# Altium footprint library Con IDC.PcbLib: 111 footprints (part 2 of 8)
Each footprint in its own frame and in the unit in brackets; x right, y up, seen from the top. Pads: shape width x height; smd on the part's side, far side on the other; paste and mask are expansions set on the pad; w line width, h text height; cw(c..) or ccw(c..) is an arc to the next point about the centre after c.
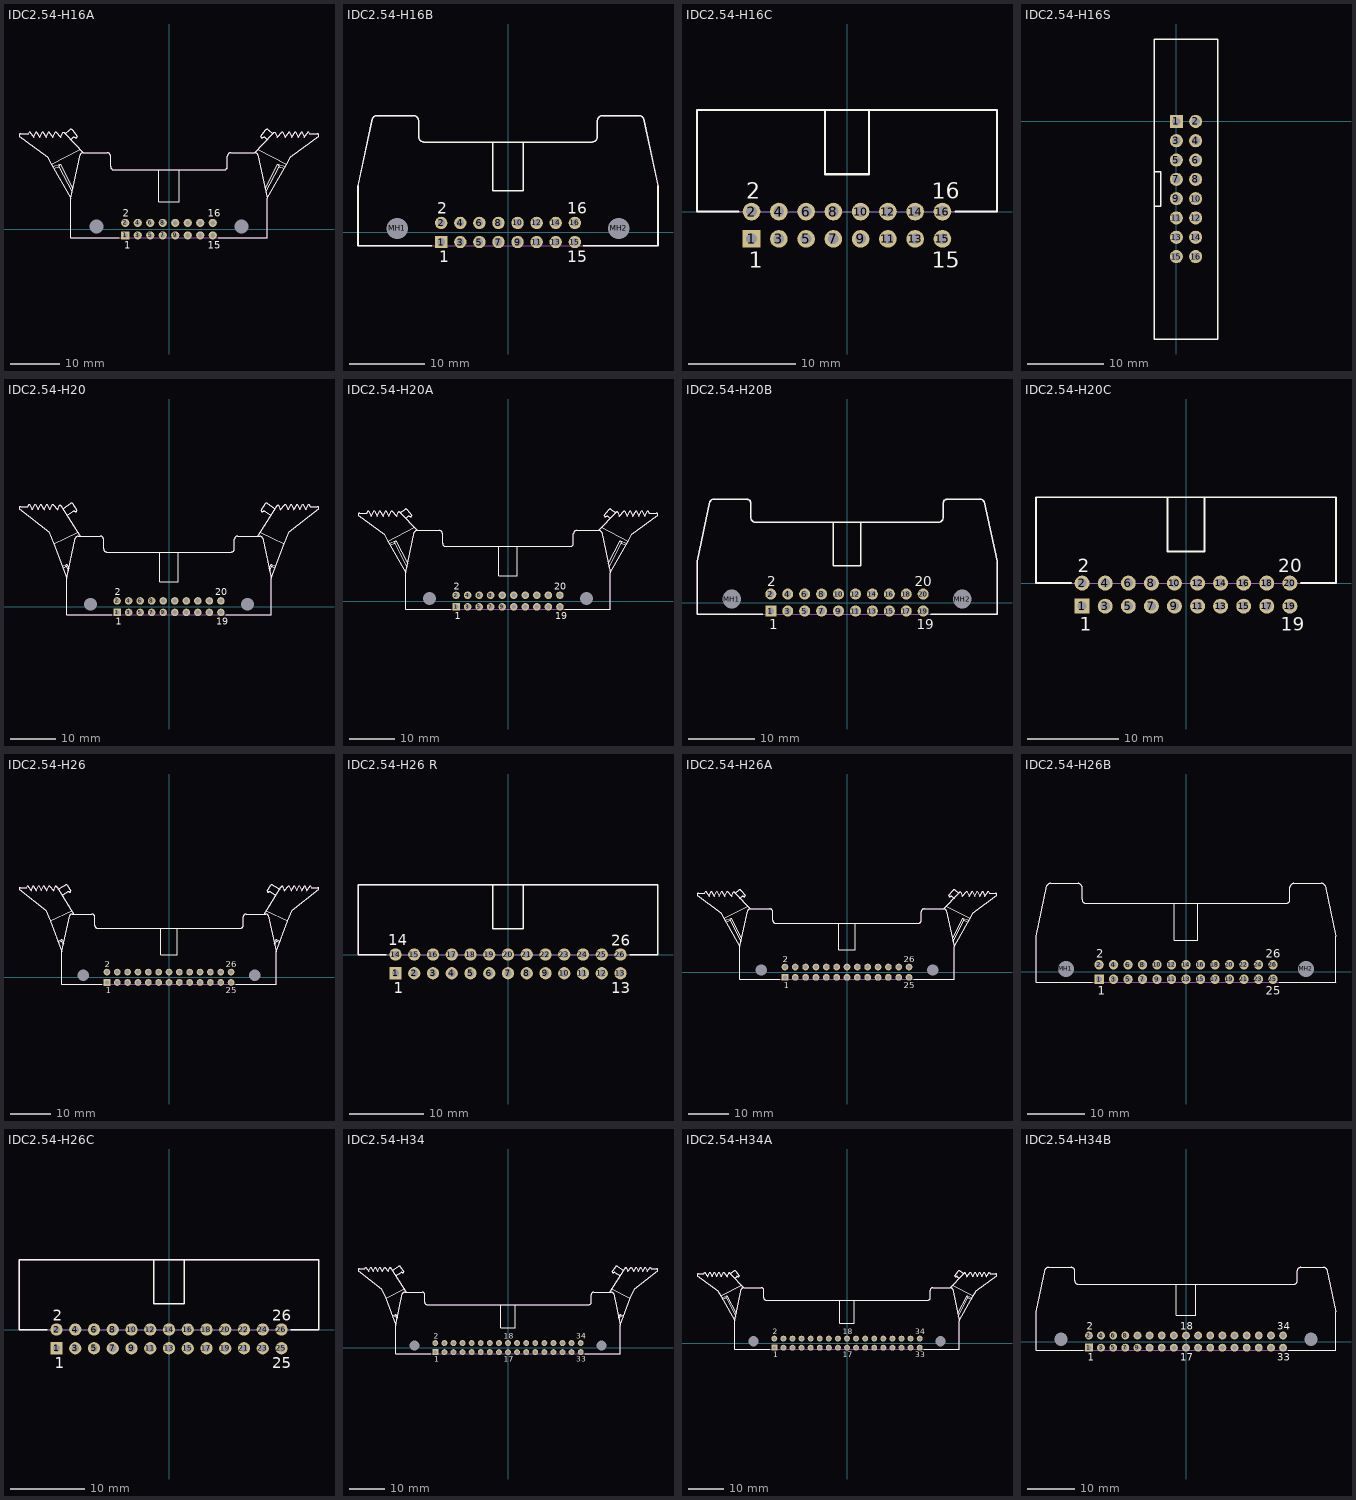
[diagram p1: the footprints below, top view; thin cyan lines are the x and y axes]

## IDC2.54-H16A [mm] "Connector; IDC, Thru-Hole; 16 Position; Right Angle; Pitch 2.54 mm; Body 39.90 x 8.5 x 23.30 mm (LxHxW), Locking levers"
height 8.5
pads (18):
  rect 1.65x1.65 hole 1: 1(-8.89,-1.27)
  round 1.65 hole 1: 2(-8.89,1.27) 3(-6.35,-1.27) 4(-6.35,1.27) 5(-3.81,-1.27) 6(-3.81,1.27) 7(-1.27,-1.27) 8(-1.27,1.27) 9(1.27,-1.27) 10(1.27,1.27) 11(3.81,-1.27) 12(3.81,1.27) 13(6.35,-1.27) 14(6.35,1.27) 15(8.89,-1.27) 16(8.89,1.27)
  round 2.5 hole 2.8 unplated: MH1(-14.73,0.53) MH2(14.73,0.53)
Top Overlay:
  lines w0.2: -23.619,12.722 -22.131,13.218 ; -23.391,12.377 -22.373,12.716 ; -19.988,18.198 -19.423,18.617 cw(c-19.287,18.227) -19.02,18.542 ccw(c-18.967,18.857) -18.648,18.877 -19.707,20.156 ccw(c-19.973,19.899) -20.122,20.238 -21.128,19.388 ; -19.703,7.442 -22.373,12.716 ; -19.556,8.195 -22.131,13.218 ; -18.07,16.204 -23.889,13.199 ; -17.46,15.53 -12.575,15.53 cw(c-12.575,14.83) -11.875,14.83 -11.875,12.73 ccw(c-11.175,12.73) -11.175,12.03 11.175,12.03 ccw(c11.175,12.73) 11.875,12.73 11.875,14.83 cw(c12.575,14.83) 12.575,15.53 17.46,15.53 ; -17.457,15.533 -21.128,19.388 ; -17.4,15.53 ccw(c-17.415,14.83) -18.06,15.102 -19.95,6.23 ; -10.115,-1.77 -19.95,-1.77 -19.95,6.23 ; -2.05,5.53 -2.05,12.03 ; -2.04,5.53 2.06,5.53 ; 2.05,5.534 2.05,12.03 ; 10,-1.77 19.95,-1.77 19.95,6.23 ; 17.4,15.53 cw(c17.415,14.83) 18.06,15.102 19.95,6.23 ; 17.457,15.533 21.128,19.388 ; 18.07,16.204 23.889,13.199 ; 19.556,8.195 22.131,13.218 ; 19.703,7.442 22.373,12.716 ; 19.988,18.198 19.423,18.617 ccw(c19.287,18.227) 19.02,18.542 cw(c18.967,18.857) 18.648,18.877 19.707,20.156 cw(c19.973,19.899) 20.122,20.238 21.128,19.388 ; 23.391,12.377 22.373,12.716 ; 23.619,12.722 22.131,13.218 ; -28.53,19.359 -30.141,19.359 ccw(c-30.141,19.02) -30.45,18.879 -24.695,14.654 -23.889,13.199 ; -28.53,19.359 -28.274,19.83 ; -28.53,19.359 -28.274,19.83 ; -28.274,19.83 -27.53,18.63 -26.93,19.83 -26.28,18.63 -25.66,19.83 -24.96,18.63 -24.41,19.83 -23.66,18.63 -23.03,19.83 -22,18.63 -21.593,19.594 cw(c-21.451,19.285) -21.128,19.388 ; -23.889,13.199 -19.95,6.23 ; -22.373,12.716 -22.131,13.218 ; 19.95,6.23 23.889,13.199 ; 21.128,19.388 cw(c21.451,19.285) 21.593,19.594 22,18.63 23.03,19.83 23.66,18.63 24.41,19.83 24.96,18.63 25.66,19.83 26.28,18.63 26.93,19.83 27.53,18.63 28.274,19.83 ; 22.131,13.218 22.373,12.716 ; 23.889,13.199 24.695,14.654 30.45,18.879 ccw(c30.141,19.02) 30.141,19.359 28.53,19.359 ; 28.274,19.83 28.53,19.359 ; 28.274,19.83 28.53,19.359
  text "15" at 7.89,-3.97 h1.5
  text "16" at 7.89,2.47 h1.5
  text "1" at -9.14,-3.97 h1.5
  text "2" at -9.39,2.47 h1.5
Mechanical 13:
  lines w0.1: -19.988,18.198 -19.423,18.617 cw(c-19.287,18.227) -19.02,18.542 ccw(c-18.967,18.857) -18.648,18.877 -19.707,20.156 ccw(c-19.973,19.899) -20.122,20.238 -21.128,19.388 ; -17.46,15.53 -12.575,15.53 cw(c-12.575,14.83) -11.875,14.83 -11.875,12.73 ccw(c-11.175,12.73) -11.175,12.03 11.175,12.03 ccw(c11.175,12.73) 11.875,12.73 11.875,14.83 cw(c12.575,14.83) 12.575,15.53 17.46,15.53 ; -17.457,15.533 -21.128,19.388 ; -17.4,15.53 ccw(c-17.415,14.83) -18.06,15.102 -19.95,6.23 ; 17.4,15.53 cw(c17.415,14.83) 18.06,15.102 19.95,6.23 ; 17.457,15.533 21.128,19.388 ; 19.988,18.198 19.423,18.617 ccw(c19.287,18.227) 19.02,18.542 cw(c18.967,18.857) 18.648,18.877 19.707,20.156 cw(c19.973,19.899) 20.122,20.238 21.128,19.388 ; -28.53,19.359 -30.141,19.359 ccw(c-30.141,19.02) -30.45,18.879 -24.695,14.654 -23.889,13.199 -19.95,6.23 ; -28.53,19.359 -28.274,19.83 ; -28.53,19.359 -28.274,19.83 ; -28.274,19.83 -27.53,18.63 -26.93,19.83 -26.28,18.63 -25.66,19.83 -24.96,18.63 -24.41,19.83 -23.66,18.63 -23.03,19.83 -22,18.63 -21.593,19.594 cw(c-21.451,19.285) -21.128,19.388 ; -19.95,6.23 -19.95,-1.77 19.95,-1.77 19.95,6.23 ; 19.95,6.23 23.889,13.199 24.695,14.654 30.45,18.879 ccw(c30.141,19.02) 30.141,19.359 28.53,19.359 ; 21.128,19.388 cw(c21.451,19.285) 21.593,19.594 22,18.63 23.03,19.83 23.66,18.63 24.41,19.83 24.96,18.63 25.66,19.83 26.28,18.63 26.93,19.83 27.53,18.63 28.274,19.83 ; 28.274,19.83 28.53,19.359 ; 28.274,19.83 28.53,19.359
3D body: height 8.5, standoff 0, extent -19.951,-1.771 19.951,15.533

## IDC2.54-H16B [mm] "Connector; IDC, Thru-Hole; 16 Position; Right Angle; Pitch 2.54 mm; Body 39.90 x 8.5 x 17.30 mm (LxHxW), Without locking levers"
height 8.5
pads (18):
  rect 1.65x1.65 hole 1: 1(-8.89,-1.27)
  round 1.65 hole 1: 2(-8.89,1.27) 3(-6.35,-1.27) 4(-6.35,1.27) 5(-3.81,-1.27) 6(-3.81,1.27) 7(-1.27,-1.27) 8(-1.27,1.27) 9(1.27,-1.27) 10(1.27,1.27) 11(3.81,-1.27) 12(3.81,1.27) 13(6.35,-1.27) 14(6.35,1.27) 15(8.89,-1.27) 16(8.89,1.27)
  round 2.5 hole 2.8 unplated: MH1(-14.73,0.53) MH2(14.73,0.53)
Top Overlay:
  lines w0.2: -10.115,-1.77 -19.95,-1.77 -19.95,6.23 -18.06,15.102 cw(c-17.415,14.83) -17.4,15.53 -12.575,15.53 cw(c-12.575,14.83) -11.875,14.83 -11.875,12.73 ccw(c-11.175,12.73) -11.175,12.03 11.175,12.03 ccw(c11.175,12.73) 11.875,12.73 11.875,14.83 cw(c12.575,14.83) 12.575,15.53 17.4,15.53 cw(c17.415,14.83) 18.06,15.102 19.95,6.23 19.95,-1.77 10,-1.77 ; -2.05,5.53 -2.05,12.03 ; -2.04,5.53 2.06,5.53 ; 2.05,5.534 2.05,12.03
  text "2" at -9.39,2.47 h1.5
  text "1" at -9.14,-3.97 h1.5
  text "16" at 7.89,2.47 h1.5
  text "15" at 7.89,-3.97 h1.5
Mechanical 13:
  lines w0.1: -19.95,-1.77 19.95,-1.77 19.95,6.23 18.06,15.102 ccw(c17.415,14.83) 17.4,15.53 12.575,15.53 ccw(c12.575,14.83) 11.875,14.83 11.875,12.73 cw(c11.175,12.73) 11.175,12.03 -11.175,12.03 cw(c-11.175,12.73) -11.875,12.73 -11.875,14.83 ccw(c-12.575,14.83) -12.575,15.53 -17.4,15.53 ccw(c-17.415,14.83) -18.06,15.102 -19.95,6.23 -19.95,-1.77
3D body: height 8.5, standoff 0, extent -19.951,-1.771 19.951,15.533

## IDC2.54-H16C [mm] "Connector; IDC, Low Profile Male Header, Thru-Hole; 16 Position; Right Angle; Pitch 2.54 mm; Body 27.94 x 8.9 x 9.2 mm (LxWxH)"
height 9.2
pads (16):
  rect 1.65x1.65 hole 1: 1(-8.89,-2.54)
  round 1.65 hole 1: 2(-8.89,0) 3(-6.35,-2.54) 4(-6.35,0) 5(-3.81,-2.54) 6(-3.81,0) 7(-1.27,-2.54) 8(-1.27,0) 9(1.27,-2.54) 10(1.27,0) 11(3.81,-2.54) 12(3.81,0) 13(6.35,-2.54) 14(6.35,0) 15(8.89,-2.54) 16(8.89,0)
Top Overlay:
  lines w0.2: -10.115,0 -13.97,0 -13.97,9.45 13.97,9.45 13.97,0 10.115,0 ; -2.05,9.45 -2.05,3.48 2.05,3.48 2.05,9.45
  text "15" at 7.89,-5.24 h1.5
  text "16" at 7.89,1.2 h1.5
  text "1" at -9.14,-5.24 h1.5
  text "2" at -9.39,1.2 h1.5
Mechanical 13:
  lines w0.1: -13.97,0 13.97,0 13.97,9.45 -13.97,9.45 -13.97,0
3D body "User Library-IDC Socket Male 16pin Angled THT Goldplated 2_54mm.step": height 8.98, standoff -2.37, extent -14.224,-3.048 14.336,10.512

## IDC2.54-H16S [mil]
pads (16):
  rect 68x68 hole 43: 1(0,0)
  round 68 hole 43: 2(100,0) 3(0,-100) 4(100,-100) 5(0,-200) 6(100,-200) 7(0,-300) 8(100,-300) 9(0,-400) 10(100,-400) 11(0,-500) 12(100,-500) 13(0,-600) 14(100,-600) 15(0,-700) 16(100,-700)
Top Overlay:
  lines w7: -115,-440 -80,-440 -80,-260 -115,-260 ; -115,-1127 -115,427 215,427 215,-1127 -115,-1127
3D body "IDC 16.STEP": height 1069.11, standoff -98, extent -115,-1127 215,427

## IDC2.54-H20 [mm] "Connector; IDC, Thru-Hole; 20 Position; Right Angle; Pitch 2.54 mm; Body 45.00 x 8.5 x 25.75 mm (LxHxW), Locking levers"
height 8.5
pads (22):
  rect 1.65x1.65 hole 1: 1(-11.43,-1.27)
  round 1.65 hole 1: 2(-11.43,1.27) 3(-8.89,-1.27) 4(-8.89,1.27) 5(-6.35,-1.27) 6(-6.35,1.27) 7(-3.81,-1.27) 8(-3.81,1.27) 9(-1.27,-1.27) 10(-1.27,1.27) 11(1.27,-1.27) 12(1.27,1.27) 13(3.81,-1.27) 14(3.81,1.27) 15(6.35,-1.27) 16(6.35,1.27) 17(8.89,-1.27) 18(8.89,1.27) 19(11.43,-1.27) 20(11.43,1.27)
  round 2.5 hole 2.8 unplated: MH1(-17.27,0.53) MH2(17.27,0.53)
Top Overlay:
  lines w0.2: -23.47,8.851 -22.505,9.3 ; -23.341,8.563 -22.67,8.877 ; -23.335,21.6 -21.612,22.725 cw(c-21.463,22.387) -21.197,22.644 -20.272,21.245 cw(c-20.592,21.225) -20.644,20.91 ccw(c-20.912,20.595) -21.047,20.985 ; -22.413,20.103 -21.05,20.991 ; -22.143,7.925 -22.67,8.877 ; -22.043,8.378 -22.505,9.3 ; -20.61,15.102 -22.5,6.23 ; -20.61,15.102 cw(c-19.965,14.83) -19.95,15.53 ; -20.115,16.383 -25.339,13.84 ; -19.94,15.53 -15.115,15.53 ; -19.544,15.53 -23.678,22.058 ccw(c-24.001,21.956) -24.143,22.265 -24.55,21.301 -25.58,22.501 -26.21,21.301 -26.96,22.501 -27.51,21.301 -28.21,22.501 -28.83,21.301 -29.48,22.501 -30.08,21.301 -30.825,22.501 ; -15.115,15.53 cw(c-15.115,14.83) -14.415,14.83 -14.415,12.73 ccw(c-13.715,12.73) -13.715,12.03 13.715,12.03 ccw(c13.715,12.73) 14.415,12.73 14.415,14.83 cw(c15.115,14.83) 15.115,15.53 19.94,15.53 ; -12.655,-1.77 -22.5,-1.77 -22.5,6.23 ; -2.05,5.53 -2.05,12.03 ; -2.04,5.53 2.06,5.53 ; 2.05,5.534 2.05,12.03 ; 12.54,-1.77 22.5,-1.77 22.5,6.23 ; 19.544,15.53 23.678,22.058 cw(c24.001,21.956) 24.143,22.265 24.55,21.301 25.58,22.501 26.21,21.301 26.96,22.501 27.51,21.301 28.21,22.501 28.83,21.301 29.48,22.501 30.08,21.301 30.825,22.501 ; 19.95,15.53 cw(c19.965,14.83) 20.61,15.102 22.5,6.23 ; 20.115,16.383 25.339,13.84 ; 21.047,20.985 ccw(c20.912,20.595) 20.644,20.91 cw(c20.592,21.225) 20.272,21.245 21.197,22.644 cw(c21.463,22.387) 21.612,22.725 23.335,21.6 ; 21.05,20.991 22.413,20.103 ; 22.043,8.378 22.505,9.3 ; 22.143,7.925 22.67,8.877 ; 23.341,8.563 22.67,8.877 ; 23.47,8.851 22.505,9.3 ; -31.08,22.03 -32.691,22.03 ccw(c-32.691,21.69) -33,21.549 -26.465,16.455 -25.339,13.84 ; -31.08,22.03 -30.825,22.501 ; -31.08,22.03 -30.825,22.501 ; -25.339,13.84 -22.5,6.23 ; -22.67,8.877 -22.505,9.3 ; 22.5,6.23 25.339,13.84 ; 22.505,9.3 22.67,8.877 ; 25.339,13.84 26.465,16.455 33,21.549 ccw(c32.691,21.69) 32.691,22.03 31.08,22.03 ; 30.825,22.501 31.08,22.03 ; 30.825,22.501 31.08,22.03
  text "2" at -11.93,2.47 h1.5
  text "1" at -11.68,-3.97 h1.5
  text "20" at 10.18,2.47 h1.5
  text "19" at 10.43,-3.97 h1.5
Mechanical 13:
  lines w0.1: -23.335,21.6 -21.612,22.725 cw(c-21.463,22.387) -21.197,22.644 -20.272,21.245 cw(c-20.592,21.225) -20.644,20.91 ccw(c-20.912,20.595) -21.047,20.985 ; -22.413,20.103 -21.05,20.991 ; -20.61,15.102 -22.5,6.23 ; -20.61,15.102 cw(c-19.965,14.83) -19.95,15.53 ; -19.94,15.53 -15.115,15.53 ; -19.544,15.53 -23.678,22.058 ccw(c-24.001,21.956) -24.143,22.265 -24.55,21.301 -25.58,22.501 -26.21,21.301 -26.96,22.501 -27.51,21.301 -28.21,22.501 -28.83,21.301 -29.48,22.501 -30.08,21.301 -30.825,22.501 ; -15.115,15.53 cw(c-15.115,14.83) -14.415,14.83 -14.415,12.73 ccw(c-13.715,12.73) -13.715,12.03 13.715,12.03 ccw(c13.715,12.73) 14.415,12.73 14.415,14.83 cw(c15.115,14.83) 15.115,15.53 19.94,15.53 ; 19.544,15.53 23.678,22.058 cw(c24.001,21.956) 24.143,22.265 24.55,21.301 25.58,22.501 26.21,21.301 26.96,22.501 27.51,21.301 28.21,22.501 28.83,21.301 29.48,22.501 30.08,21.301 30.825,22.501 ; 19.95,15.53 cw(c19.965,14.83) 20.61,15.102 22.5,6.23 ; 21.047,20.985 ccw(c20.912,20.595) 20.644,20.91 cw(c20.592,21.225) 20.272,21.245 21.197,22.644 cw(c21.463,22.387) 21.612,22.725 23.335,21.6 ; 21.05,20.991 22.413,20.103 ; -31.08,22.03 -30.825,22.501 ; -31.08,22.03 -32.691,22.03 ccw(c-32.691,21.69) -33,21.549 -26.465,16.455 -25.339,13.84 -22.5,6.23 ; -31.08,22.03 -30.825,22.501 ; -22.5,6.23 -22.5,-1.77 22.5,-1.77 22.5,6.23 ; 22.5,6.23 25.339,13.84 26.465,16.455 33,21.549 ccw(c32.691,21.69) 32.691,22.03 31.08,22.03 ; 30.825,22.501 31.08,22.03 ; 30.825,22.501 31.08,22.03
3D body: height 8.5, standoff 0, extent -22.501,-1.771 22.501,15.533

## IDC2.54-H20A [mm] "Connector; IDC, Thru-Hole; 20 Position; Right Angle; Pitch 2.54 mm; Body 45.00 x 8.5 x 23.30 mm (LxHxW), Locking levers"
height 8.5
pads (22):
  rect 1.65x1.65 hole 1: 1(-11.43,-1.27)
  round 1.65 hole 1: 2(-11.43,1.27) 3(-8.89,-1.27) 4(-8.89,1.27) 5(-6.35,-1.27) 6(-6.35,1.27) 7(-3.81,-1.27) 8(-3.81,1.27) 9(-1.27,-1.27) 10(-1.27,1.27) 11(1.27,-1.27) 12(1.27,1.27) 13(3.81,-1.27) 14(3.81,1.27) 15(6.35,-1.27) 16(6.35,1.27) 17(8.89,-1.27) 18(8.89,1.27) 19(11.43,-1.27) 20(11.43,1.27)
  round 2.5 hole 2.8 unplated: MH1(-17.27,0.53) MH2(17.27,0.53)
Top Overlay:
  lines w0.2: -26.169,12.722 -24.681,13.218 ; -25.941,12.377 -24.923,12.716 ; -22.538,18.198 -21.973,18.617 cw(c-21.837,18.227) -21.57,18.542 ccw(c-21.517,18.857) -21.198,18.877 -22.257,20.156 ccw(c-22.523,19.899) -22.672,20.238 -23.678,19.388 ; -22.253,7.442 -24.923,12.716 ; -22.106,8.195 -24.681,13.218 ; -20.62,16.204 -26.439,13.199 ; -20.007,15.533 -23.678,19.388 ; -20,15.53 -15.115,15.53 cw(c-15.115,14.83) -14.415,14.83 -14.415,12.73 ccw(c-13.715,12.73) -13.715,12.03 13.715,12.03 ccw(c13.715,12.73) 14.415,12.73 14.415,14.83 cw(c15.115,14.83) 15.115,15.53 20,15.53 ; -19.95,15.53 ccw(c-19.965,14.83) -20.61,15.102 -22.5,6.23 ; -12.655,-1.77 -22.5,-1.77 -22.5,6.23 ; -2.05,5.53 -2.05,12.03 ; -2.04,5.53 2.06,5.53 ; 2.05,5.534 2.05,12.03 ; 12.54,-1.77 22.5,-1.77 22.5,6.23 ; 19.95,15.53 cw(c19.965,14.83) 20.61,15.102 22.5,6.23 ; 20.007,15.533 23.678,19.388 ; 20.62,16.204 26.439,13.199 ; 22.106,8.195 24.681,13.218 ; 22.253,7.442 24.923,12.716 ; 22.538,18.198 21.973,18.617 ccw(c21.837,18.227) 21.57,18.542 cw(c21.517,18.857) 21.198,18.877 22.257,20.156 cw(c22.523,19.899) 22.672,20.238 23.678,19.388 ; 25.941,12.377 24.923,12.716 ; 26.169,12.722 24.681,13.218 ; -31.08,19.359 -30.824,19.83 ; -31.08,19.359 -30.824,19.83 ; -31.08,19.359 -32.691,19.359 ccw(c-32.691,19.02) -33,18.879 -27.245,14.654 -26.439,13.199 ; -30.824,19.83 -30.08,18.63 -29.48,19.83 -28.83,18.63 -28.21,19.83 -27.51,18.63 -26.96,19.83 -26.21,18.63 -25.58,19.83 -24.55,18.63 -24.143,19.594 cw(c-24.001,19.285) -23.678,19.388 ; -26.439,13.199 -22.5,6.23 ; -24.923,12.716 -24.681,13.218 ; 22.5,6.23 26.439,13.199 ; 23.678,19.388 cw(c24.001,19.285) 24.143,19.594 24.55,18.63 25.58,19.83 26.21,18.63 26.96,19.83 27.51,18.63 28.21,19.83 28.83,18.63 29.48,19.83 30.08,18.63 30.824,19.83 ; 24.681,13.218 24.923,12.716 ; 26.439,13.199 27.245,14.654 33,18.879 ccw(c32.691,19.02) 32.691,19.359 31.08,19.359 ; 30.824,19.83 31.08,19.359 ; 30.824,19.83 31.08,19.359
  text "2" at -11.93,2.47 h1.5
  text "1" at -11.68,-3.97 h1.5
  text "20" at 10.18,2.47 h1.5
  text "19" at 10.43,-3.97 h1.5
Mechanical 13:
  lines w0.1: -22.538,18.198 -21.973,18.617 cw(c-21.837,18.227) -21.57,18.542 ccw(c-21.517,18.857) -21.198,18.877 -22.257,20.156 ccw(c-22.523,19.899) -22.672,20.238 -23.678,19.388 ; -20.007,15.533 -23.678,19.388 ; -20,15.53 -15.115,15.53 cw(c-15.115,14.83) -14.415,14.83 -14.415,12.73 ccw(c-13.715,12.73) -13.715,12.03 13.715,12.03 ccw(c13.715,12.73) 14.415,12.73 14.415,14.83 cw(c15.115,14.83) 15.115,15.53 20,15.53 ; -19.95,15.53 ccw(c-19.965,14.83) -20.61,15.102 -22.5,6.23 ; 19.95,15.53 cw(c19.965,14.83) 20.61,15.102 22.5,6.23 ; 20.007,15.533 23.678,19.388 ; 22.538,18.198 21.973,18.617 ccw(c21.837,18.227) 21.57,18.542 cw(c21.517,18.857) 21.198,18.877 22.257,20.156 cw(c22.523,19.899) 22.672,20.238 23.678,19.388 ; -31.08,19.359 -30.824,19.83 ; -31.08,19.359 -32.691,19.359 ccw(c-32.691,19.02) -33,18.879 -27.245,14.654 -26.439,13.199 -22.5,6.23 ; -31.08,19.359 -30.824,19.83 ; -30.824,19.83 -30.08,18.63 -29.48,19.83 -28.83,18.63 -28.21,19.83 -27.51,18.63 -26.96,19.83 -26.21,18.63 -25.58,19.83 -24.55,18.63 -24.143,19.594 cw(c-24.001,19.285) -23.678,19.388 ; -22.5,6.23 -22.5,-1.77 22.5,-1.77 22.5,6.23 ; 22.5,6.23 26.439,13.199 27.245,14.654 33,18.879 ccw(c32.691,19.02) 32.691,19.359 31.08,19.359 ; 23.678,19.388 cw(c24.001,19.285) 24.143,19.594 24.55,18.63 25.58,19.83 26.21,18.63 26.96,19.83 27.51,18.63 28.21,19.83 28.83,18.63 29.48,19.83 30.08,18.63 30.824,19.83 ; 30.824,19.83 31.08,19.359 ; 30.824,19.83 31.08,19.359
3D body: height 8.5, standoff 0, extent -22.501,-1.771 22.501,15.533

## IDC2.54-H20B [mm] "Connector; IDC, Thru-Hole; 20 Position; Right Angle; Pitch 2.54 mm; Body 45.00 x 8.5 x 17.30 mm (LxHxW), Without locking levers"
height 8.5
pads (22):
  rect 1.65x1.65 hole 1: 1(-11.43,-1.27)
  round 1.65 hole 1: 2(-11.43,1.27) 3(-8.89,-1.27) 4(-8.89,1.27) 5(-6.35,-1.27) 6(-6.35,1.27) 7(-3.81,-1.27) 8(-3.81,1.27) 9(-1.27,-1.27) 10(-1.27,1.27) 11(1.27,-1.27) 12(1.27,1.27) 13(3.81,-1.27) 14(3.81,1.27) 15(6.35,-1.27) 16(6.35,1.27) 17(8.89,-1.27) 18(8.89,1.27) 19(11.43,-1.27) 20(11.43,1.27)
  round 2.5 hole 2.8 unplated: MH1(-17.27,0.53) MH2(17.27,0.53)
Top Overlay:
  lines w0.2: -12.655,-1.77 -22.5,-1.77 -22.5,6.23 -20.6,15.102 cw(c-19.955,14.83) -19.94,15.53 -15.115,15.53 cw(c-15.115,14.83) -14.415,14.83 -14.415,12.73 ccw(c-13.715,12.73) -13.715,12.03 13.715,12.03 ccw(c13.715,12.73) 14.415,12.73 14.415,14.83 cw(c15.115,14.83) 15.115,15.53 19.94,15.53 cw(c19.955,14.83) 20.6,15.102 22.5,6.23 22.5,-1.77 12.54,-1.77 ; -2.05,5.53 -2.05,12.03 ; -2.04,5.53 2.06,5.53 ; 2.05,5.534 2.05,12.03
  text "19" at 10.43,-3.97 h1.5
  text "20" at 10.18,2.47 h1.5
  text "1" at -11.68,-3.97 h1.5
  text "2" at -11.93,2.47 h1.5
Mechanical 13:
  lines w0.1: -22.5,-1.77 22.5,-1.77 22.5,6.23 20.6,15.102 ccw(c19.955,14.83) 19.94,15.53 15.115,15.53 ccw(c15.115,14.83) 14.415,14.83 14.415,12.73 cw(c13.715,12.73) 13.715,12.03 -13.715,12.03 cw(c-13.715,12.73) -14.415,12.73 -14.415,14.83 ccw(c-15.115,14.83) -15.115,15.53 -19.94,15.53 ccw(c-19.955,14.83) -20.6,15.102 -22.5,6.23 -22.5,-1.77
3D body: height 8.5, standoff 0, extent -22.501,-1.771 22.501,15.533

## IDC2.54-H20C [mm] "Connector; IDC, Low Profile Male Header, Thru-Hole; 20 Position; Right Angle; Pitch 2.54 mm; Body 33.02 x 8.9 x 9.2 mm (LxWxH)"
height 9.2
pads (20):
  rect 1.65x1.65 hole 1: 1(-11.43,-2.54)
  round 1.65 hole 1: 2(-11.43,0) 3(-8.89,-2.54) 4(-8.89,0) 5(-6.35,-2.54) 6(-6.35,0) 7(-3.81,-2.54) 8(-3.81,0) 9(-1.27,-2.54) 10(-1.27,0) 11(1.27,-2.54) 12(1.27,0) 13(3.81,-2.54) 14(3.81,0) 15(6.35,-2.54) 16(6.35,0) 17(8.89,-2.54) 18(8.89,0) 19(11.43,-2.54) 20(11.43,0)
Top Overlay:
  lines w0.2: -12.655,0 -16.51,0 -16.51,9.45 16.51,9.45 16.51,0 12.655,0 ; -2.05,9.45 -2.05,3.48 2.05,3.48 2.05,9.45
  text "19" at 10.43,-5.24 h1.5
  text "20" at 10.18,1.2 h1.5
  text "1" at -11.68,-5.24 h1.5
  text "2" at -11.93,1.2 h1.5
Mechanical 13:
  lines w0.1: -16.51,0 16.51,0 16.51,9.45 -16.51,9.45 -16.51,0
3D body: height 9.2, standoff 0, extent -16.51,0 16.51,9.45

## IDC2.54-H26 [mm] "Connector; IDC, Thru-Hole; 26 Position; Right Angle; Pitch 2.54 mm; Body 52.60 x 8.5 x 25.75 mm (LxHxW), Locking levers"
height 8.5
pads (28):
  rect 1.65x1.65 hole 1: 1(-15.24,-1.27)
  round 1.65 hole 1: 2(-15.24,1.27) 3(-12.7,-1.27) 4(-12.7,1.27) 5(-10.16,-1.27) 6(-10.16,1.27) 7(-7.62,-1.27) 8(-7.62,1.27) 9(-5.08,-1.27) 10(-5.08,1.27) 11(-2.54,-1.27) 12(-2.54,1.27) 13(0,-1.27) 14(0,1.27) 15(2.54,-1.27) 16(2.54,1.27) 17(5.08,-1.27) 18(5.08,1.27) 19(7.62,-1.27) 20(7.62,1.27) 21(10.16,-1.27) 22(10.16,1.27) 23(12.7,-1.27) 24(12.7,1.27) 25(15.24,-1.27) 26(15.24,1.27)
  round 2.5 hole 2.8 unplated: MH1(-21.08,0.53) MH2(21.08,0.53)
Top Overlay:
  lines w0.2: -27.27,8.851 -26.305,9.3 ; -27.141,8.563 -26.47,8.877 ; -27.135,21.6 -25.412,22.725 cw(c-25.263,22.387) -24.997,22.644 -24.072,21.245 cw(c-24.392,21.225) -24.444,20.91 ccw(c-24.712,20.595) -24.847,20.985 ; -26.213,20.103 -24.85,20.991 ; -25.943,7.925 -26.47,8.877 ; -25.843,8.378 -26.305,9.3 ; -23.915,16.383 -29.139,13.84 ; -23.344,15.53 -27.478,22.058 ccw(c-27.801,21.956) -27.943,22.265 -28.35,21.301 -29.38,22.501 -30.01,21.301 -30.76,22.501 -31.31,21.301 -32.01,22.501 -32.63,21.301 -33.28,22.501 -33.88,21.301 -34.625,22.501 ; -18.925,15.53 cw(c-18.925,14.83) -18.225,14.83 -18.225,12.73 ccw(c-17.525,12.73) -17.525,12.03 17.525,12.03 ccw(c17.525,12.73) 18.225,12.73 18.225,14.83 cw(c18.925,14.83) 18.925,15.53 23.75,15.53 cw(c23.765,14.83) 24.41,15.102 26.3,6.23 ; -18.925,15.53 -23.75,15.53 ccw(c-23.765,14.83) -24.41,15.102 -26.3,6.23 ; -16.465,-1.77 -26.3,-1.77 -26.3,6.23 ; -2.05,5.53 -2.05,12.03 ; -2.04,5.53 2.06,5.53 ; 2.05,5.534 2.05,12.03 ; 16.35,-1.77 26.3,-1.77 26.3,6.23 ; 23.344,15.53 27.478,22.058 cw(c27.801,21.956) 27.943,22.265 28.35,21.301 29.38,22.501 30.01,21.301 30.76,22.501 31.31,21.301 32.01,22.501 32.63,21.301 33.28,22.501 33.88,21.301 34.624,22.501 ; 23.915,16.383 29.139,13.84 ; 24.847,20.985 ccw(c24.712,20.595) 24.444,20.91 cw(c24.392,21.225) 24.072,21.245 24.997,22.644 cw(c25.263,22.387) 25.412,22.725 27.135,21.6 ; 24.85,20.991 26.213,20.103 ; 25.843,8.378 26.305,9.3 ; 25.943,7.925 26.47,8.877 ; 27.141,8.563 26.47,8.877 ; 27.27,8.851 26.305,9.3 ; -34.88,22.03 -36.491,22.03 ccw(c-36.491,21.69) -36.8,21.549 -30.265,16.455 -29.139,13.84 ; -34.88,22.03 -34.625,22.501 ; -34.88,22.03 -34.625,22.501 ; -29.139,13.84 -26.3,6.23 ; -26.47,8.877 -26.305,9.3 ; 26.3,6.23 29.139,13.84 ; 26.305,9.3 26.47,8.877 ; 29.139,13.84 30.265,16.455 36.8,21.549 ccw(c36.491,21.69) 36.491,22.03 34.88,22.03 ; 34.624,22.501 34.88,22.03 ; 34.624,22.501 34.88,22.03
  text "2" at -15.74,2.47 h1.5
  text "1" at -15.49,-3.97 h1.5
  text "26" at 13.99,2.47 h1.5
  text "25" at 13.99,-3.97 h1.5
Mechanical 13:
  lines w0.1: -27.135,21.6 -25.412,22.725 cw(c-25.263,22.387) -24.997,22.644 -24.072,21.245 cw(c-24.392,21.225) -24.444,20.91 ccw(c-24.712,20.595) -24.847,20.985 ; -26.213,20.103 -24.85,20.991 ; -23.344,15.53 -27.478,22.058 ccw(c-27.801,21.956) -27.943,22.265 -28.35,21.301 -29.38,22.501 -30.01,21.301 -30.76,22.501 -31.31,21.301 -32.01,22.501 -32.63,21.301 -33.28,22.501 -33.88,21.301 -34.625,22.501 ; -18.925,15.53 cw(c-18.925,14.83) -18.225,14.83 -18.225,12.73 ccw(c-17.525,12.73) -17.525,12.03 17.525,12.03 ccw(c17.525,12.73) 18.225,12.73 18.225,14.83 cw(c18.925,14.83) 18.925,15.53 23.75,15.53 cw(c23.765,14.83) 24.41,15.102 26.3,6.23 ; -18.925,15.53 -23.75,15.53 ccw(c-23.765,14.83) -24.41,15.102 -26.3,6.23 ; 23.344,15.53 27.478,22.058 cw(c27.801,21.956) 27.943,22.265 28.35,21.301 29.38,22.501 30.01,21.301 30.76,22.501 31.31,21.301 32.01,22.501 32.63,21.301 33.28,22.501 33.88,21.301 34.624,22.501 ; 24.847,20.985 ccw(c24.712,20.595) 24.444,20.91 cw(c24.392,21.225) 24.072,21.245 24.997,22.644 cw(c25.263,22.387) 25.412,22.725 27.135,21.6 ; 24.85,20.991 26.213,20.103 ; -34.88,22.03 -34.625,22.501 ; -34.88,22.03 -36.491,22.03 ccw(c-36.491,21.69) -36.8,21.549 -30.265,16.455 -29.139,13.84 -26.3,6.23 ; -34.88,22.03 -34.625,22.501 ; -26.3,6.23 -26.3,-1.77 26.3,-1.77 26.3,6.23 ; 26.3,6.23 29.139,13.84 30.265,16.455 36.8,21.549 ccw(c36.491,21.69) 36.491,22.03 34.88,22.03 ; 34.624,22.501 34.88,22.03 ; 34.624,22.501 34.88,22.03
3D body: height 8.5, standoff 0, extent -26.301,-1.771 26.301,15.533

## IDC2.54-H26 R [mm] "IDC Socket Male 26pin Angled THT Goldplated 2.54mm"
height 9.2
pads (26):
  rect 1.65x1.65 hole 1: 1(-15.24,-2.54)
  round 1.65 hole 1: 2(-12.7,-2.54) 3(-10.16,-2.54) 4(-7.62,-2.54) 5(-5.08,-2.54) 6(-2.54,-2.54) 7(0,-2.54) 8(2.54,-2.54) 9(5.08,-2.54) 10(7.62,-2.54) 11(10.16,-2.54) 12(12.7,-2.54) 13(15.24,-2.54) 14(-15.24,0) 15(-12.7,0) 16(-10.16,0) 17(-7.62,0) 18(-5.08,0) 19(-2.54,0) 20(0,0) 21(2.54,0) 22(5.08,0) 23(7.62,0) 24(10.16,0) 25(12.7,0) 26(15.24,0)
Top Overlay:
  lines w0.2: -16.465,0 -20.32,0 -20.32,9.45 20.32,9.45 20.32,0 16.465,0 ; -2.05,9.45 -2.05,3.48 2.05,3.48 2.05,9.45
  text "13" at 13.99,-5.24 h1.5
  text "26" at 13.99,1.2 h1.5
  text "1" at -15.49,-5.24 h1.5
  text "14" at -16.256,1.27 h1.5
Mechanical 13:
  lines w0.1: -20.32,0 20.32,0 20.32,9.45 -20.32,9.45 -20.32,0
3D body "User Library-IDC Socket Male 26pin Angled THT Goldplated 2_54mm.step": height 8.98, standoff -2.37, extent -20.62,-2.864 20.64,10.696

## IDC2.54-H26A [mm] "Connector; IDC, Thru-Hole; 26 Position; Right Angle; Pitch 2.54 mm; Body 52.60 x 8.5 x 23.30 mm (LxHxW), Locking levers"
height 8.5
pads (28):
  rect 1.65x1.65 hole 1: 1(-15.24,-1.27)
  round 1.65 hole 1: 2(-15.24,1.27) 3(-12.7,-1.27) 4(-12.7,1.27) 5(-10.16,-1.27) 6(-10.16,1.27) 7(-7.62,-1.27) 8(-7.62,1.27) 9(-5.08,-1.27) 10(-5.08,1.27) 11(-2.54,-1.27) 12(-2.54,1.27) 13(0,-1.27) 14(0,1.27) 15(2.54,-1.27) 16(2.54,1.27) 17(5.08,-1.27) 18(5.08,1.27) 19(7.62,-1.27) 20(7.62,1.27) 21(10.16,-1.27) 22(10.16,1.27) 23(12.7,-1.27) 24(12.7,1.27) 25(15.24,-1.27) 26(15.24,1.27)
  round 2.5 hole 2.8 unplated: MH1(-21.08,0.53) MH2(21.08,0.53)
Top Overlay:
  lines w0.2: -29.969,12.722 -28.481,13.218 ; -29.741,12.377 -28.723,12.716 ; -26.338,18.198 -25.773,18.617 cw(c-25.637,18.227) -25.37,18.542 ccw(c-25.317,18.857) -24.998,18.877 -26.057,20.156 ccw(c-26.323,19.899) -26.472,20.238 -27.478,19.388 ; -26.053,7.442 -28.723,12.716 ; -25.906,8.195 -28.481,13.218 ; -24.42,16.204 -30.239,13.199 ; -23.807,15.533 -27.478,19.388 ; -18.925,15.53 cw(c-18.925,14.83) -18.225,14.83 -18.225,12.73 ccw(c-17.525,12.73) -17.525,12.03 17.525,12.03 ccw(c17.525,12.73) 18.225,12.73 18.225,14.83 cw(c18.925,14.83) 18.925,15.53 23.75,15.53 cw(c23.765,14.83) 24.41,15.102 26.3,6.23 ; -18.925,15.53 -23.75,15.53 ccw(c-23.765,14.83) -24.41,15.102 -26.3,6.23 ; -16.465,-1.77 -26.3,-1.77 -26.3,6.23 ; -2.05,5.53 -2.05,12.03 ; -2.04,5.53 2.06,5.53 ; 2.05,5.534 2.05,12.03 ; 16.35,-1.77 26.3,-1.77 26.3,6.23 ; 23.807,15.533 27.478,19.388 ; 24.42,16.204 30.239,13.199 ; 25.906,8.195 28.481,13.218 ; 26.053,7.442 28.723,12.716 ; 26.338,18.198 25.773,18.617 ccw(c25.637,18.227) 25.37,18.542 cw(c25.317,18.857) 24.998,18.877 26.057,20.156 cw(c26.323,19.899) 26.472,20.238 27.478,19.388 ; 29.741,12.377 28.723,12.716 ; 29.969,12.722 28.481,13.218 ; -34.88,19.359 -36.491,19.359 ccw(c-36.491,19.02) -36.8,18.879 -31.045,14.654 -30.239,13.199 ; -34.88,19.359 -34.624,19.83 ; -34.88,19.359 -34.624,19.83 ; -34.624,19.83 -33.88,18.63 -33.28,19.83 -32.63,18.63 -32.01,19.83 -31.31,18.63 -30.76,19.83 -30.01,18.63 -29.38,19.83 -28.35,18.63 -27.943,19.594 cw(c-27.801,19.285) -27.478,19.388 ; -30.239,13.199 -26.3,6.23 ; -28.723,12.716 -28.481,13.218 ; 26.3,6.23 30.239,13.199 ; 27.478,19.388 cw(c27.801,19.285) 27.943,19.594 28.35,18.63 29.38,19.83 30.01,18.63 30.76,19.83 31.31,18.63 32.01,19.83 32.63,18.63 33.28,19.83 33.88,18.63 34.624,19.83 ; 28.481,13.218 28.723,12.716 ; 30.239,13.199 31.045,14.654 36.8,18.879 ccw(c36.491,19.02) 36.491,19.359 34.88,19.359 ; 34.624,19.83 34.88,19.359 ; 34.624,19.83 34.88,19.359
  text "25" at 13.99,-3.97 h1.5
  text "26" at 13.99,2.47 h1.5
  text "1" at -15.49,-3.97 h1.5
  text "2" at -15.74,2.47 h1.5
Mechanical 13:
  lines w0.1: -26.338,18.198 -25.773,18.617 cw(c-25.637,18.227) -25.37,18.542 ccw(c-25.317,18.857) -24.998,18.877 -26.057,20.156 ccw(c-26.323,19.899) -26.472,20.238 -27.478,19.388 ; -23.807,15.533 -27.478,19.388 ; -18.925,15.53 cw(c-18.925,14.83) -18.225,14.83 -18.225,12.73 ccw(c-17.525,12.73) -17.525,12.03 17.525,12.03 ccw(c17.525,12.73) 18.225,12.73 18.225,14.83 cw(c18.925,14.83) 18.925,15.53 23.75,15.53 cw(c23.765,14.83) 24.41,15.102 26.3,6.23 ; -18.925,15.53 -23.75,15.53 ccw(c-23.765,14.83) -24.41,15.102 -26.3,6.23 ; 23.807,15.533 27.478,19.388 ; 26.338,18.198 25.773,18.617 ccw(c25.637,18.227) 25.37,18.542 cw(c25.317,18.857) 24.998,18.877 26.057,20.156 cw(c26.323,19.899) 26.472,20.238 27.478,19.388 ; -34.88,19.359 -34.624,19.83 ; -34.88,19.359 -36.491,19.359 ccw(c-36.491,19.02) -36.8,18.879 -31.045,14.654 -30.239,13.199 -26.3,6.23 ; -34.88,19.359 -34.624,19.83 ; -34.624,19.83 -33.88,18.63 -33.28,19.83 -32.63,18.63 -32.01,19.83 -31.31,18.63 -30.76,19.83 -30.01,18.63 -29.38,19.83 -28.35,18.63 -27.943,19.594 cw(c-27.801,19.285) -27.478,19.388 ; -26.3,6.23 -26.3,-1.77 26.3,-1.77 26.3,6.23 ; 26.3,6.23 30.239,13.199 31.045,14.654 36.8,18.879 ccw(c36.491,19.02) 36.491,19.359 34.88,19.359 ; 27.478,19.388 cw(c27.801,19.285) 27.943,19.594 28.35,18.63 29.38,19.83 30.01,18.63 30.76,19.83 31.31,18.63 32.01,19.83 32.63,18.63 33.28,19.83 33.88,18.63 34.624,19.83 ; 34.624,19.83 34.88,19.359 ; 34.624,19.83 34.88,19.359
3D body: height 8.5, standoff 0, extent -26.301,-1.771 26.301,15.533

## IDC2.54-H26B [mm] "Connector; IDC, Thru-Hole; 26 Position; Right Angle; Pitch 2.54 mm; Body 52.60 x 8.5 x 17.30 mm (LxHxW), Without locking levers"
height 8.5
pads (28):
  rect 1.65x1.65 hole 1: 1(-15.24,-1.27)
  round 1.65 hole 1: 2(-15.24,1.27) 3(-12.7,-1.27) 4(-12.7,1.27) 5(-10.16,-1.27) 6(-10.16,1.27) 7(-7.62,-1.27) 8(-7.62,1.27) 9(-5.08,-1.27) 10(-5.08,1.27) 11(-2.54,-1.27) 12(-2.54,1.27) 13(0,-1.27) 14(0,1.27) 15(2.54,-1.27) 16(2.54,1.27) 17(5.08,-1.27) 18(5.08,1.27) 19(7.62,-1.27) 20(7.62,1.27) 21(10.16,-1.27) 22(10.16,1.27) 23(12.7,-1.27) 24(12.7,1.27) 25(15.24,-1.27) 26(15.24,1.27)
  round 2.5 hole 2.8 unplated: MH1(-21.08,0.53) MH2(21.08,0.53)
Top Overlay:
  lines w0.2: -18.925,15.53 cw(c-18.925,14.83) -18.225,14.83 -18.225,12.73 ccw(c-17.525,12.73) -17.525,12.03 17.525,12.03 ccw(c17.525,12.73) 18.225,12.73 18.225,14.83 cw(c18.925,14.83) 18.925,15.53 23.75,15.53 cw(c23.765,14.83) 24.41,15.102 26.3,6.23 26.3,-1.77 16.35,-1.77 ; -18.925,15.53 -23.75,15.53 ccw(c-23.765,14.83) -24.41,15.102 -26.3,6.23 -26.3,-1.77 -16.465,-1.77 ; -2.05,5.53 -2.05,12.03 ; -2.04,5.53 2.06,5.53 ; 2.05,5.534 2.05,12.03
  text "2" at -15.74,2.47 h1.5
  text "1" at -15.49,-3.97 h1.5
  text "26" at 13.99,2.47 h1.5
  text "25" at 13.99,-3.97 h1.5
Mechanical 13:
  lines w0.1: -18.925,15.53 cw(c-18.925,14.83) -18.225,14.83 -18.225,12.73 ccw(c-17.525,12.73) -17.525,12.03 17.525,12.03 ccw(c17.525,12.73) 18.225,12.73 18.225,14.83 cw(c18.925,14.83) 18.925,15.53 23.75,15.53 cw(c23.765,14.83) 24.41,15.102 26.3,6.23 26.3,-1.77 -26.3,-1.77 -26.3,6.23 -24.41,15.102 cw(c-23.765,14.83) -23.75,15.53 -18.925,15.53
3D body: height 8.5, standoff 0, extent -26.301,-1.771 26.301,15.533

## IDC2.54-H26C [mm] "Connector; IDC, Low Profile Male Header, Thru-Hole; 26 Position; Right Angle; Pitch 2.54 mm; Body 40.64 x 8.9 x 9.2 mm (LxWxH)"
height 9.2
pads (26):
  rect 1.65x1.65 hole 1: 1(-15.24,-2.54)
  round 1.65 hole 1: 2(-15.24,0) 3(-12.7,-2.54) 4(-12.7,0) 5(-10.16,-2.54) 6(-10.16,0) 7(-7.62,-2.54) 8(-7.62,0) 9(-5.08,-2.54) 10(-5.08,0) 11(-2.54,-2.54) 12(-2.54,0) 13(0,-2.54) 14(0,0) 15(2.54,-2.54) 16(2.54,0) 17(5.08,-2.54) 18(5.08,0) 19(7.62,-2.54) 20(7.62,0) 21(10.16,-2.54) 22(10.16,0) 23(12.7,-2.54) 24(12.7,0) 25(15.24,-2.54) 26(15.24,0)
Top Overlay:
  lines w0.2: -16.465,0 -20.32,0 -20.32,9.45 20.32,9.45 20.32,0 16.465,0 ; -2.05,9.45 -2.05,3.48 2.05,3.48 2.05,9.45
  text "2" at -15.74,1.2 h1.5
  text "1" at -15.49,-5.24 h1.5
  text "26" at 13.99,1.2 h1.5
  text "25" at 13.99,-5.24 h1.5
Mechanical 13:
  lines w0.1: -20.32,0 -20.32,9.45 20.32,9.45 20.32,0 -20.32,0
3D body: height 9.2, standoff 0, extent -20.32,0 20.32,9.45

## IDC2.54-H34 [mm] "Connector; IDC, Thru-Hole; 34 Position; Right Angle; Pitch 2.54 mm; Body 62.80 x 8.5 x 25.75 mm (LxHxW), Locking levers"
height 8.5
pads (36):
  rect 1.65x1.65 hole 1: 1(-20.32,-1.27)
  round 1.65 hole 1: 2(-20.32,1.27) 3(-17.78,-1.27) 4(-17.78,1.27) 5(-15.24,-1.27) 6(-15.24,1.27) 7(-12.7,-1.27) 8(-12.7,1.27) 9(-10.16,-1.27) 10(-10.16,1.27) 11(-7.62,-1.27) 12(-7.62,1.27) 13(-5.08,-1.27) 14(-5.08,1.27) 15(-2.54,-1.27) 16(-2.54,1.27) 17(0,-1.27) 18(0,1.27) 19(2.54,-1.27) 20(2.54,1.27) 21(5.08,-1.27) 22(5.08,1.27) 23(7.62,-1.27) 24(7.62,1.27) 25(10.16,-1.27) 26(10.16,1.27) 27(12.7,-1.27) 28(12.7,1.27) 29(15.24,-1.27) 30(15.24,1.27) 31(17.78,-1.27) 32(17.78,1.27) 33(20.32,-1.27) 34(20.32,1.27)
  round 2.5 hole 2.8 unplated: MH1(-26.16,0.53) MH2(26.16,0.53)
Top Overlay:
  lines w0.2: -32.37,8.851 -31.405,9.3 ; -32.241,8.563 -31.57,8.877 ; -32.235,21.6 -30.512,22.725 cw(c-30.363,22.387) -30.097,22.644 -29.172,21.245 cw(c-29.492,21.225) -29.544,20.91 ccw(c-29.812,20.595) -29.947,20.985 ; -31.313,20.103 -29.95,20.991 ; -31.043,7.925 -31.57,8.877 ; -30.943,8.378 -31.405,9.3 ; -29.015,16.383 -34.239,13.84 ; -28.444,15.53 -32.578,22.058 ccw(c-32.901,21.956) -33.043,22.265 -33.45,21.301 -34.48,22.501 -35.11,21.301 -35.86,22.501 -36.41,21.301 -37.11,22.501 -37.73,21.301 -38.38,22.501 -38.98,21.301 -39.725,22.501 ; -21.545,-1.77 -31.4,-1.77 -31.4,6.23 ; -2.05,5.53 -2.05,12.03 ; -2.04,5.53 2.06,5.53 ; 2.05,5.534 2.05,12.03 ; 21.43,-1.77 31.4,-1.77 31.4,6.23 ; 28.444,15.53 32.578,22.058 cw(c32.901,21.956) 33.043,22.265 33.45,21.301 34.48,22.501 35.11,21.301 35.86,22.501 36.41,21.301 37.11,22.501 37.73,21.301 38.38,22.501 38.98,21.301 39.725,22.501 ; 29.015,16.383 34.239,13.84 ; 29.947,20.985 ccw(c29.812,20.595) 29.544,20.91 cw(c29.492,21.225) 29.172,21.245 30.097,22.644 cw(c30.363,22.387) 30.512,22.725 32.235,21.6 ; 29.95,20.991 31.313,20.103 ; 30.943,8.378 31.405,9.3 ; 31.043,7.925 31.57,8.877 ; 32.241,8.563 31.57,8.877 ; 32.37,8.851 31.405,9.3 ; -39.98,22.03 -41.591,22.03 ccw(c-41.591,21.69) -41.9,21.549 -35.365,16.455 -34.239,13.84 ; -39.98,22.03 -39.725,22.501 ; -39.98,22.03 -39.725,22.501 ; -34.239,13.84 -31.4,6.23 ; -31.57,8.877 -31.405,9.3 ; -31.4,6.23 -29.51,15.102 cw(c-28.865,14.83) -28.85,15.53 -24.005,15.53 cw(c-24.005,14.83) -23.305,14.83 -23.305,12.73 ccw(c-22.605,12.73) -22.605,12.03 22.605,12.03 ccw(c22.605,12.73) 23.305,12.73 23.305,14.83 cw(c24.005,14.83) 24.005,15.53 28.85,15.53 cw(c28.865,14.83) 29.51,15.102 31.4,6.23 ; 31.4,6.23 34.239,13.84 ; 31.405,9.3 31.57,8.877 ; 34.239,13.84 35.365,16.455 41.9,21.549 ccw(c41.591,21.69) 41.591,22.03 39.98,22.03 ; 39.725,22.501 39.98,22.03 ; 39.725,22.501 39.98,22.03
  text "17" at -1.25,-3.97 h1.5
  text "18" at -1.25,2.47 h1.5
  text "2" at -20.82,2.47 h1.5
  text "1" at -20.57,-3.97 h1.5
  text "34" at 19.07,2.47 h1.5
  text "33" at 19.07,-3.97 h1.5
Mechanical 13:
  lines w0.1: -32.235,21.6 -30.512,22.725 cw(c-30.363,22.387) -30.097,22.644 -29.172,21.245 cw(c-29.492,21.225) -29.544,20.91 ccw(c-29.812,20.595) -29.947,20.985 ; -31.313,20.103 -29.95,20.991 ; -28.444,15.53 -32.578,22.058 ccw(c-32.901,21.956) -33.043,22.265 -33.45,21.301 -34.48,22.501 -35.11,21.301 -35.86,22.501 -36.41,21.301 -37.11,22.501 -37.73,21.301 -38.38,22.501 -38.98,21.301 -39.725,22.501 ; 28.444,15.53 32.578,22.058 cw(c32.901,21.956) 33.043,22.265 33.45,21.301 34.48,22.501 35.11,21.301 35.86,22.501 36.41,21.301 37.11,22.501 37.73,21.301 38.38,22.501 38.98,21.301 39.725,22.501 ; 29.947,20.985 ccw(c29.812,20.595) 29.544,20.91 cw(c29.492,21.225) 29.172,21.245 30.097,22.644 cw(c30.363,22.387) 30.512,22.725 32.235,21.6 ; 29.95,20.991 31.313,20.103 ; -39.98,22.03 -39.725,22.501 ; -39.98,22.03 -39.725,22.501 ; -39.98,22.03 -41.591,22.03 ccw(c-41.591,21.69) -41.9,21.549 -35.365,16.455 -34.239,13.84 -31.4,6.23 ; -31.4,6.23 -31.4,-1.77 31.4,-1.77 31.4,6.23 ; -31.4,6.23 -29.51,15.102 cw(c-28.865,14.83) -28.85,15.53 -24.005,15.53 cw(c-24.005,14.83) -23.305,14.83 -23.305,12.73 ccw(c-22.605,12.73) -22.605,12.03 22.605,12.03 ccw(c22.605,12.73) 23.305,12.73 23.305,14.83 cw(c24.005,14.83) 24.005,15.53 28.85,15.53 cw(c28.865,14.83) 29.51,15.102 31.4,6.23 ; 31.4,6.23 34.239,13.84 35.365,16.455 41.9,21.549 ccw(c41.591,21.69) 41.591,22.03 39.98,22.03 ; 39.725,22.501 39.98,22.03 ; 39.725,22.501 39.98,22.03
3D body: height 8.5, standoff 0, extent -31.401,-1.771 31.401,15.533

## IDC2.54-H34A [mm] "Connector; IDC, Thru-Hole; 34 Position; Right Angle; Pitch 2.54 mm; Body 62.80 x 8.5 x 23.30 mm (LxHxW), Locking levers"
height 8.5
pads (36):
  rect 1.65x1.65 hole 1: 1(-20.32,-1.27)
  round 1.65 hole 1: 2(-20.32,1.27) 3(-17.78,-1.27) 4(-17.78,1.27) 5(-15.24,-1.27) 6(-15.24,1.27) 7(-12.7,-1.27) 8(-12.7,1.27) 9(-10.16,-1.27) 10(-10.16,1.27) 11(-7.62,-1.27) 12(-7.62,1.27) 13(-5.08,-1.27) 14(-5.08,1.27) 15(-2.54,-1.27) 16(-2.54,1.27) 17(0,-1.27) 18(0,1.27) 19(2.54,-1.27) 20(2.54,1.27) 21(5.08,-1.27) 22(5.08,1.27) 23(7.62,-1.27) 24(7.62,1.27) 25(10.16,-1.27) 26(10.16,1.27) 27(12.7,-1.27) 28(12.7,1.27) 29(15.24,-1.27) 30(15.24,1.27) 31(17.78,-1.27) 32(17.78,1.27) 33(20.32,-1.27) 34(20.32,1.27)
  round 2.5 hole 2.8 unplated: MH1(-26.16,0.53) MH2(26.16,0.53)
Top Overlay:
  lines w0.2: -35.069,12.722 -33.581,13.218 ; -34.841,12.377 -33.823,12.716 ; -31.438,18.198 -30.873,18.617 cw(c-30.737,18.227) -30.47,18.542 ccw(c-30.417,18.857) -30.098,18.877 -31.157,20.156 ccw(c-31.423,19.899) -31.572,20.238 -32.578,19.388 ; -31.153,7.442 -33.823,12.716 ; -31.006,8.195 -33.581,13.218 ; -29.52,16.204 -35.339,13.199 ; -28.907,15.533 -32.578,19.388 ; -21.545,-1.77 -31.4,-1.77 -31.4,6.23 ; -2.05,5.53 -2.05,12.03 ; -2.04,5.53 2.06,5.53 ; 2.05,5.534 2.05,12.03 ; 21.43,-1.77 31.4,-1.77 31.4,6.23 ; 28.907,15.533 32.578,19.388 ; 29.52,16.204 35.339,13.199 ; 31.006,8.195 33.581,13.218 ; 31.153,7.442 33.823,12.716 ; 31.438,18.198 30.873,18.617 ccw(c30.737,18.227) 30.47,18.542 cw(c30.417,18.857) 30.098,18.877 31.157,20.156 cw(c31.423,19.899) 31.572,20.238 32.578,19.388 ; 34.841,12.377 33.823,12.716 ; 35.069,12.722 33.581,13.218 ; -39.98,19.359 -41.591,19.359 ccw(c-41.591,19.02) -41.9,18.879 -36.145,14.654 -35.339,13.199 ; -39.98,19.359 -39.724,19.83 ; -39.98,19.359 -39.724,19.83 ; -39.724,19.83 -38.98,18.63 -38.38,19.83 -37.73,18.63 -37.11,19.83 -36.41,18.63 -35.86,19.83 -35.11,18.63 -34.48,19.83 -33.45,18.63 -33.043,19.594 cw(c-32.901,19.285) -32.578,19.388 ; -35.339,13.199 -31.4,6.23 ; -33.823,12.716 -33.581,13.218 ; -31.4,6.23 -29.51,15.102 cw(c-28.865,14.83) -28.85,15.53 -24.005,15.53 cw(c-24.005,14.83) -23.305,14.83 -23.305,12.73 ccw(c-22.605,12.73) -22.605,12.03 22.605,12.03 ccw(c22.605,12.73) 23.305,12.73 23.305,14.83 cw(c24.005,14.83) 24.005,15.53 28.85,15.53 cw(c28.865,14.83) 29.51,15.102 31.4,6.23 ; 31.4,6.23 35.339,13.199 ; 32.578,19.388 cw(c32.901,19.285) 33.043,19.594 33.45,18.63 34.48,19.83 35.11,18.63 35.86,19.83 36.41,18.63 37.11,19.83 37.73,18.63 38.38,19.83 38.98,18.63 39.724,19.83 ; 33.581,13.218 33.823,12.716 ; 35.339,13.199 36.145,14.654 41.9,18.879 ccw(c41.591,19.02) 41.591,19.359 39.98,19.359 ; 39.724,19.83 39.98,19.359 ; 39.724,19.83 39.98,19.359
  text "2" at -20.82,2.47 h1.5
  text "1" at -20.57,-3.97 h1.5
  text "34" at 19.07,2.47 h1.5
  text "33" at 19.07,-3.97 h1.5
  text "18" at -1.25,2.47 h1.5
  text "17" at -1.25,-3.97 h1.5
Mechanical 13:
  lines w0.1: -31.438,18.198 -30.873,18.617 cw(c-30.737,18.227) -30.47,18.542 ccw(c-30.417,18.857) -30.098,18.877 -31.157,20.156 ccw(c-31.423,19.899) -31.572,20.238 -32.578,19.388 ; -29.52,16.204 -35.339,13.199 ; -28.907,15.533 -32.578,19.388 ; 28.907,15.533 32.578,19.388 ; 31.438,18.198 30.873,18.617 ccw(c30.737,18.227) 30.47,18.542 cw(c30.417,18.857) 30.098,18.877 31.157,20.156 cw(c31.423,19.899) 31.572,20.238 32.578,19.388 ; -39.98,19.359 -41.591,19.359 ccw(c-41.591,19.02) -41.9,18.879 -36.145,14.654 -35.339,13.199 ; -39.98,19.359 -39.724,19.83 ; -39.98,19.359 -39.724,19.83 ; -39.724,19.83 -38.98,18.63 -38.38,19.83 -37.73,18.63 -37.11,19.83 -36.41,18.63 -35.86,19.83 -35.11,18.63 -34.48,19.83 -33.45,18.63 -33.043,19.594 cw(c-32.901,19.285) -32.578,19.388 ; -35.339,13.199 -31.4,6.23 ; -31.4,6.23 -29.51,15.102 cw(c-28.865,14.83) -28.85,15.53 -24.005,15.53 cw(c-24.005,14.83) -23.305,14.83 -23.305,12.73 ccw(c-22.605,12.73) -22.605,12.03 22.605,12.03 ccw(c22.605,12.73) 23.305,12.73 23.305,14.83 cw(c24.005,14.83) 24.005,15.53 28.85,15.53 cw(c28.865,14.83) 29.51,15.102 31.4,6.23 ; -31.4,6.23 -31.4,-1.77 31.4,-1.77 31.4,6.23 ; 31.4,6.23 35.339,13.199 36.145,14.654 41.9,18.879 ccw(c41.591,19.02) 41.591,19.359 39.98,19.359 ; 32.578,19.388 cw(c32.901,19.285) 33.043,19.594 33.45,18.63 34.48,19.83 35.11,18.63 35.86,19.83 36.41,18.63 37.11,19.83 37.73,18.63 38.38,19.83 38.98,18.63 39.724,19.83 ; 39.724,19.83 39.98,19.359 ; 39.724,19.83 39.98,19.359
3D body: height 8.5, standoff 0, extent -31.401,-1.771 31.401,15.533

## IDC2.54-H34B [mm] "Connector; IDC, Thru-Hole; 34 Position; Right Angle; Pitch 2.54 mm; Body 62.80 x 8.5 x 17.30 mm (LxHxW), Without locking levers"
height 8.5
pads (36):
  rect 1.65x1.65 hole 1: 1(-20.32,-1.27)
  round 1.65 hole 1: 2(-20.32,1.27) 3(-17.78,-1.27) 4(-17.78,1.27) 5(-15.24,-1.27) 6(-15.24,1.27) 7(-12.7,-1.27) 8(-12.7,1.27) 9(-10.16,-1.27) 10(-10.16,1.27) 11(-7.62,-1.27) 12(-7.62,1.27) 13(-5.08,-1.27) 14(-5.08,1.27) 15(-2.54,-1.27) 16(-2.54,1.27) 17(0,-1.27) 18(0,1.27) 19(2.54,-1.27) 20(2.54,1.27) 21(5.08,-1.27) 22(5.08,1.27) 23(7.62,-1.27) 24(7.62,1.27) 25(10.16,-1.27) 26(10.16,1.27) 27(12.7,-1.27) 28(12.7,1.27) 29(15.24,-1.27) 30(15.24,1.27) 31(17.78,-1.27) 32(17.78,1.27) 33(20.32,-1.27) 34(20.32,1.27)
  round 2.5 hole 2.8 unplated: MH1(-26.16,0.53) MH2(26.16,0.53)
Top Overlay:
  lines w0.2: -21.545,-1.77 -31.4,-1.77 -31.4,6.23 -29.51,15.102 cw(c-28.865,14.83) -28.85,15.53 -24.005,15.53 cw(c-24.005,14.83) -23.305,14.83 -23.305,12.73 ccw(c-22.605,12.73) -22.605,12.03 22.605,12.03 ccw(c22.605,12.73) 23.305,12.73 23.305,14.83 cw(c24.005,14.83) 24.005,15.53 28.85,15.53 cw(c28.865,14.83) 29.51,15.102 31.4,6.23 31.4,-1.77 21.43,-1.77 ; -2.05,5.53 -2.05,12.03 ; -2.04,5.53 2.06,5.53 ; 2.05,5.534 2.05,12.03
  text "33" at 19.07,-3.97 h1.5
  text "34" at 19.07,2.47 h1.5
  text "1" at -20.57,-3.97 h1.5
  text "2" at -20.82,2.47 h1.5
  text "18" at -1.25,2.47 h1.5
  text "17" at -1.25,-3.97 h1.5
Mechanical 13:
  lines w0.1: -31.4,-1.77 -31.4,6.23 -29.51,15.102 cw(c-28.865,14.83) -28.85,15.53 -24.005,15.53 cw(c-24.005,14.83) -23.305,14.83 -23.305,12.73 ccw(c-22.605,12.73) -22.605,12.03 22.605,12.03 ccw(c22.605,12.73) 23.305,12.73 23.305,14.83 cw(c24.005,14.83) 24.005,15.53 28.85,15.53 cw(c28.865,14.83) 29.51,15.102 31.4,6.23 31.4,-1.77 -31.4,-1.77
3D body: height 8.5, standoff 0, extent -31.401,-1.771 31.401,15.533